# Altium footprint library 1_to_5_Pin.PcbLib: 195 footprints (part 10 of 13)
Each footprint in its own frame and in the unit in brackets; x right, y up, seen from the top. Pads: shape width x height; smd on the part's side, far side on the other; paste and mask are expansions set on the pad; w line width, h text height; cw(c..) or ccw(c..) is an arc to the next point about the centre after c.
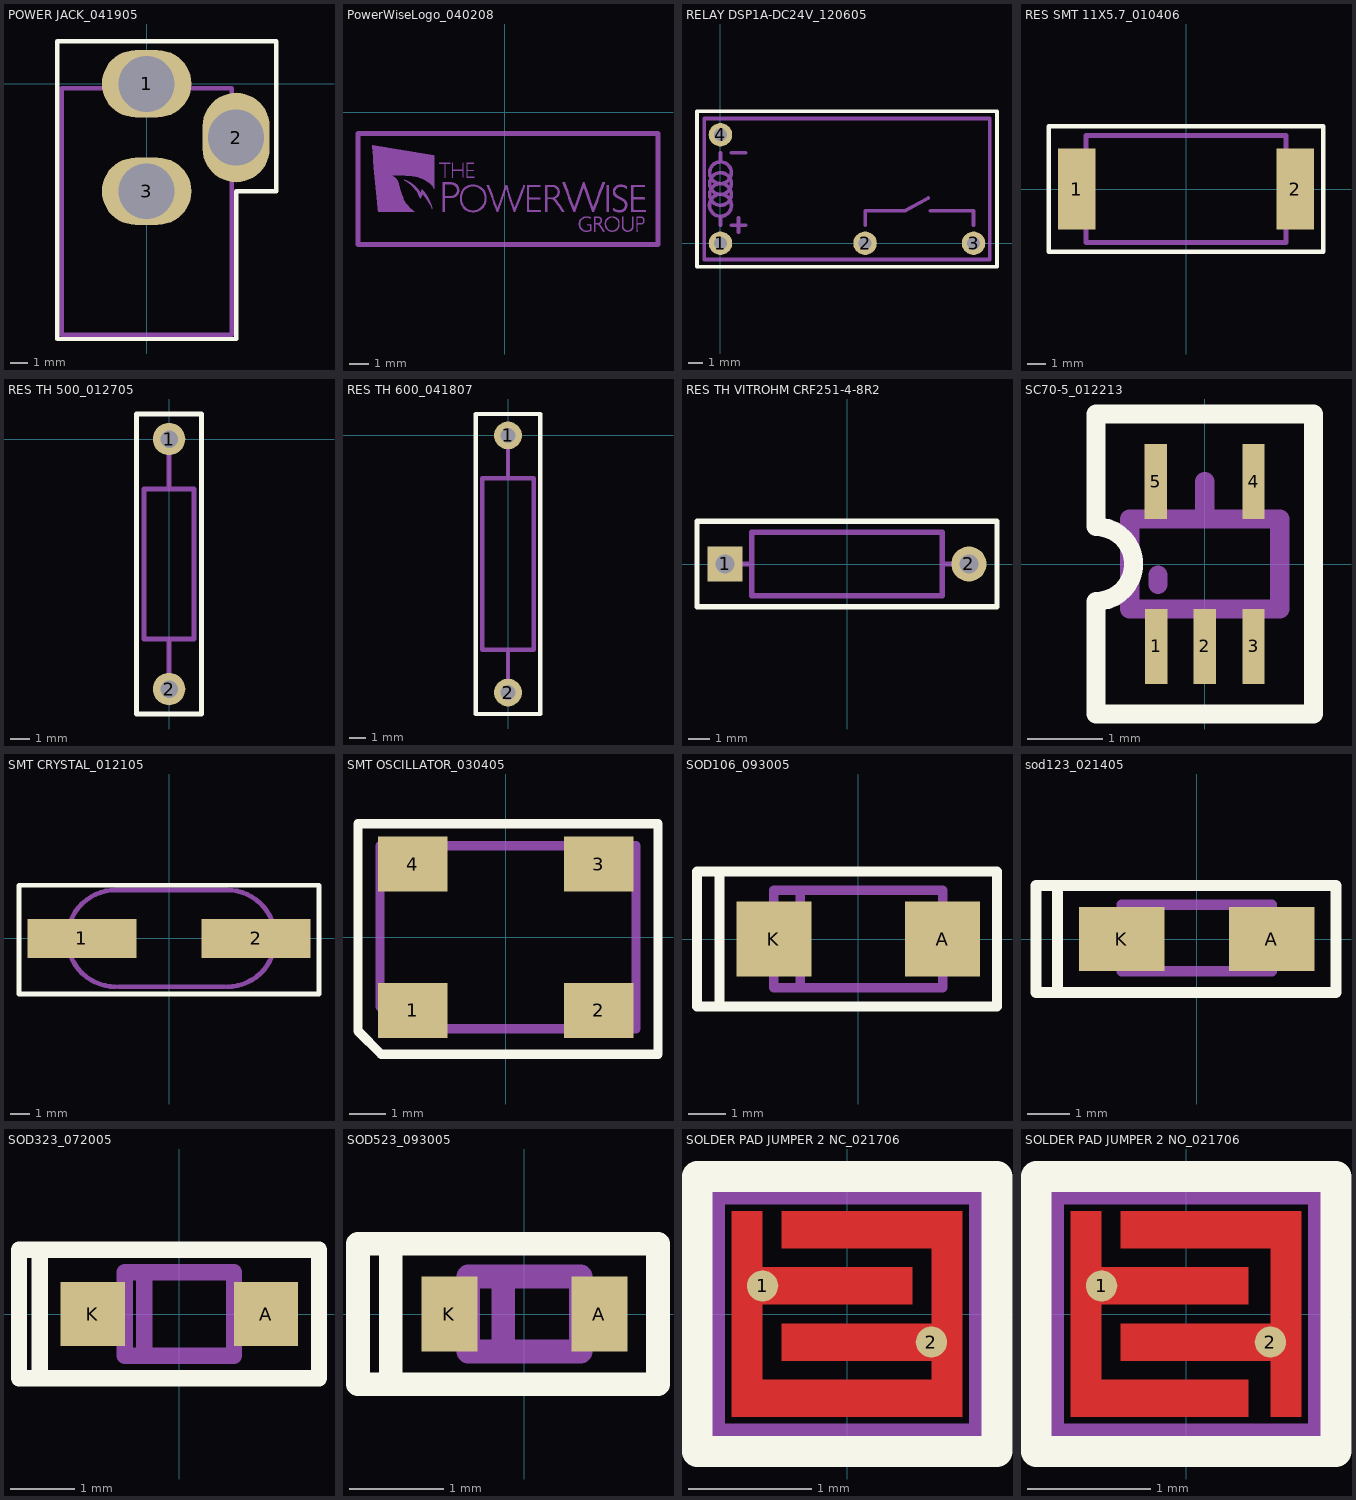
[diagram p9: the footprints below, top view; thin cyan lines are the x and y axes]

## POWER JACK_041905 [mil] "TH"
height 440
pads (3):
  oval 200x150 hole 125: 1(0,0) 3(0,-240)
  oval 150x200 hole 125: 2(200,-120)
Top Overlay:
  lines w10: -200,-570 200,-570 199.99,-240 289.99,-240 289.99,95 -200.01,95 -200,-570
Assembly Outline:
  lines w10: -190.01,-560 -190.01,-10 189.99,-10 189.99,-560 -190.01,-560
Assembly Designator:
  text ".Designator" at -60,-400 h40
Assembly Comment:
  text ".Comment" at -170,-530 h40

## PowerWiseLogo_040208 [mil] "N/A"
Bottom Overlay:
  drawing of 1578 lines, arcs and shapes, not listed

## RELAY DSP1A-DC24V_120605 [mil] "TH"
height 412
pads (4):
  round 65 hole 35: 1(0,0) 2(400,0) 3(700,0) 4(0,300)
Top Overlay:
  lines w10: -65,-65 715,-65 765,-65 765,365 -65,365 -65,-65
Assembly Outline:
  circle w10: c0,195 r30
  circle w10: c0,105 r30.41
  circle w10: c0,135 r30
  circle w10: c0,165 r30
  lines w10: -45,150 -45,-45 ; 0,50 0,75 ; 0,225 0,250 ; 30,50 70,50 ; 30,250 70,250 ; 49.8,29.92 49.8,69.92 ; 400,50 400,90 510,90 575,125 ; 580,90 700,90 700,50 ; -45,-45 745,-45 745,345 -45,345 -45,-45
Assembly Designator:
  text ".Designator" at 275,145 h40
Assembly Comment:
  text ".Comment" at 180,-115 h40

## RES SMT 11X5.7_010406 [mil] "SMT"
height 210
pads (2):
  rect 80x175 smd: 1(-235,0) 2(235,0)
Top Overlay:
  lines w10: -295,-135 0,-135 295,-135 295,0 295,135 0,135 -295,135 -295,0 -295,-135
Assembly Outline:
  lines w10: -215,-50 -235,-50 -235,0 -235,50 -215,50 ; 0,115 -215,115 ; 215,-50 235,-50 235,0 235,50 215,50 ; -215,115 -215,-115 215,-115 215,115 -215,115
Assembly Designator:
  text ".Designator" at -35,-15 h40
Assembly Comment:
  text ".Comment" at -180,-185 h40

## RES TH 500_012705 [mil] "TH"
height 100
pads (2):
  round 65 hole 35: 1(0,0) 2(0,-500)
Top Overlay:
  lines w10: -65,-550 -65,50 0,50 65,50 65,-550 -65,-550
Assembly Outline:
  lines w10: 0,-500 0,-400 ; 0,-100 0,0 ; -50,-400 -50,-100 50,-100 50,-250 50,-400 -50,-400
Assembly Designator:
  text ".Designator" at -15,-219 h40
Assembly Comment:
  text ".Comment" at -108,-108 h40

## RES TH 600_041807 [mil] "TH"
height 100
pads (2):
  round 65 hole 35: 1(0,0) 2(0,-600)
Top Overlay:
  lines w10: -75,-650 -75,50 75,50 75,-650 -75,-650
Assembly Outline:
  lines w10: 0,-600 0,-500 ; 0,-100 0,0 ; -60,-500 -60,-100 60,-100 60,-500 -60,-500
Assembly Designator:
  text ".Designator" at -15,-219 h40
Assembly Comment:
  text ".Comment" at -120,-120 h40

## RES TH VITROHM CRF251-4-8R2 [mil] "TH"
height 118.11
pads (2):
  rect 65x65 hole 35: 1(-226.38,0)
  round 65 hole 35: 2(226.38,0)
Top Overlay:
  lines w10: -278.54,-79.72 0,-79.72 278.54,-79.72 278.54,0 278.54,79.72 0,79.72 -278.54,79.72 -278.54,0 -278.54,-79.72
Assembly Outline:
  lines w10: -226.38,0 -177.17,0 ; 0,59.06 177.17,59.06 177.17,0 ; 17.72,59.06 -177.17,59.06 -177.17,0 ; 226.38,0 177.17,0 ; -177.17,-59.05 0,-59.05 ; -177.17,-59.05 -177.17,0 ; -177.17,-59.05 0,-59.05 ; -177.17,-59.05 -177.17,0 ; 0,-59.05 177.17,-59.05 177.17,0
Assembly Designator:
  text ".Designator" at -53.15,-14.76 h40
Assembly Comment:
  text ".Comment" at -177.17,-132.87 h40

## SC70-5_012213 [mm] "SMT"
height 1
pads (5):
  rect 0.3x1 smd mask+0.038: 1(-0.65,-1.1) 2(0,-1.1) 3(0.65,-1.1) 4(0.65,1.1) 5(-0.65,1.1)
Top Overlay:
  lines w0.254: -1.45,-2 -1.45,-0.5 ccw(c-1.45,0) -1.45,0.5 -1.45,2 0.375,2 1.45,2 1.45,0 1.45,-2 -0.375,-2 -1.45,-2
Assembly Outline:
  lines w0.254: -1,0 -1,0.6 ; -0.65,-1.1 -0.65,-0.6 ; -0.65,0.6 -0.65,1.1 ; -0.625,-0.275 -0.625,-0.15 ; 0,-1.1 0,-0.6 ; 0,1.1 0,0.6 -1,0.6 ; 0.65,-1.1 0.65,-0.6 ; 0.65,0.6 0.65,1.1 ; -1,-0.6 1,-0.6 ; -1,-0.6 -1,0.6 ; -1,-0.6 1,-0.6 ; -1,0.6 1,0.6 1,-0.6
Assembly Designator:
  text ".Designator" at 1.8,-0.475 h1.02
Assembly Comment:
  text ".Comment" at -1.825,-3.5 h1.02

## SMT CRYSTAL_012105 [mil] "SMT"
height 160
pads (2):
  rect 225x80 smd: 1(-180,0) 2(180,0)
Top Overlay:
  lines w10: -310,-115 310,-115 310,110 -310,110 -310,-115
Assembly Outline:
  lines w10: -208,-25 -240,-25 -240,30 -206,30 ; -110,-100 cw(c-110,0) -110,100 120,100 cw(c120,0) 120,-100 ; -105,-100 115,-100 ; 216,30 250,30 250,-25 217,-25
Assembly Designator:
  text ".Designator" at -65,40 h40
Assembly Comment:
  text ".Comment" at -180,-20 h40

## SMT OSCILLATOR_030405 [mm] "SMT"
height 2.54
pads (4):
  rect 1.9x1.5 smd: 1(-2.54,-2) 2(2.54,-2) 3(2.54,2) 4(-2.54,2)
Top Overlay:
  lines w0.254: -4.04,-2.564 -3.404,-3.2 4.16,-3.2 4.16,3.1 -4.04,3.1 -4.04,-2.564
Assembly Outline:
  lines w0.254: -3.44,-1.894 -2.834,-2.5 3.56,-2.5 3.56,2.5 -3.44,2.5 -3.44,-1.894
Assembly Designator:
  text ".Designator" at -1.016,-0.381 h1.02
Assembly Comment:
  text ".Comment" at -2.794,-1.778 h1.02

## SOD106_093005 [mm] "SMT"
height 2
pads (2):
  rect 2x2 smd: A(2.25,0) K(-2.25,0)
Top Overlay:
  lines w0.254: -3.7,-1.8 -4.3,-1.8 -4.3,1.8 -3.7,1.8 ; -3.7,-1.8 -3.7,0 -3.7,1.8 ; -3.7,-1.8 0,-1.8 3.7,-1.8 3.7,0 3.7,1.8 0,1.8 -3.7,1.8
Assembly Outline:
  lines w0.254: -1.55,1.3 -1.55,-1.3 -1.05,-1.3 ; 2.25,0 2.25,1.3 ; 2.25,1.3 2.25,-1.3 -2.25,-1.3 -2.25,1.3 2.25,1.3
Assembly Designator:
  text ".Designator" at -0.55,-0.4 h1.02
Assembly Comment:
  text ".Comment" at -2.25,-3.3 h1.02

## sod123_021405 [mil] "SMT"
height 50
pads (2):
  rect 80x60 smd: A(70,0) K(-70,0)
Top Overlay:
  lines w10: -130,-50 -130,50 ; -150,-50 40,-50 130,-50 130,50 40,50 -150,50 -150,-50
Assembly Outline:
  lines w10: -40,-30 -40,32 ; -70,-30 70,-30 70,32 -70,32 -70,-30
Assembly Designator:
  text ".Designator" at -105,-15 h40
Assembly Comment:
  text ".Comment" at -117,-82 h40

## SOD323_072005 [mm] "SMT"
height 1.16
pads (2):
  rect 1x1 smd: A(1.35,0) K(-1.35,0)
Top Overlay:
  lines w0.254: -2.175,-1 0,-1 2.175,-1 2.175,0 2.175,1 0,1 -2.175,1 ; -2.175,-1 -2.175,0 -2.175,1 ; -2.175,-1 -2.5,-1 -2.5,1 -2.175,1
Assembly Outline:
  lines w0.254: -0.85,-0.2 -1.35,-0.2 -1.35,0 -1.35,0.2 -0.85,0.2 ; -0.55,-0.65 -0.55,0.65 ; 0,-0.65 -0.85,-0.65 ; 0.85,-0.2 1.35,-0.2 1.35,0 1.35,0.2 0.85,0.2 ; -0.85,-0.65 0.85,-0.65 0.85,0.65 -0.85,0.65 -0.85,-0.65
Assembly Designator:
  text ".Designator" at -0.975,1.325 h1.02
Assembly Comment:
  text ".Comment" at -3,-2.275 h1.02

## SOD523_093005 [mm] "SMT"
height 0.6
pads (2):
  rect 0.6x0.8 smd: A(0.8,0) K(-0.8,0)
Top Overlay:
  lines w0.254: -1.425,-0.75 0,-0.75 1.425,-0.75 1.425,0 1.425,0.75 0,0.75 -1.425,0.75 ; -1.425,-0.75 -1.425,0 -1.425,0.75 ; -1.425,-0.75 -1.775,-0.75 -1.775,0.75 -1.425,0.75
Assembly Outline:
  lines w0.254: -0.225,-0.4 -0.225,0.4 ; 0.6,0 0.8,0 0.8,0.15 ; -0.8,0.15 -0.8,0 -0.6,0 -0.6,0.4 ; -0.8,0.15 -0.6,0.15 -0.6,-0.15 -0.8,-0.15 -0.8,0.15 ; -0.6,0.4 0.6,0.4 0.6,-0.4 -0.6,-0.4 -0.6,0.4 ; 0.8,0.15 0.6,0.15 0.6,-0.15 0.8,-0.15 0.8,0.15
Assembly Designator:
  text ".Designator" at -0.95,1.15 h1.02
Assembly Comment:
  text ".Comment" at -2.95,-2.1 h1.02

## SOLDER PAD JUMPER 2 NC_021706 [mil] "FEATURE SMT PCB"
pads (2):
  round 10 smd mask+2: 1(-27,9) 2(27,-9)
Top Layer:
  region: 37,33 27,33 27,-33 37,-33
  rectangle: -37,-33 -27,33
  rectangle: -21,21 33,33
  rectangle: -33,-33 37,-21
  rectangle: -21,-15 33,-3
  rectangle: -33,3 21,15
Top Overlay:
  lines w10: -48,-44 0,-44 48,-44 48,0 48,44 0,44 -48,44 -48,0 -48,-44
Top Solder:
  circle w50: c0,0 r24
Assembly Outline:
  lines w10: -44,-40 0,-40 44,-40 44,0 44,40 0,40 -44,40 -44,0 -44,-40
Assembly Designator:
  text ".Designator" at -30,-16 h40
Assembly Comment:
  text ".Comment" at -50,-102 h40

## SOLDER PAD JUMPER 2 NO_021706 [mil] "FEATURE SMT PCB"
pads (2):
  round 10 smd mask+2: 1(-27,9) 2(27,-9)
Top Layer:
  region: 37,33 27,33 27,-33 37,-33
  rectangle: -37,-33 -27,33
  rectangle: -21,21 33,33
  rectangle: -33,-33 20,-21
  rectangle: -21,-15 33,-3
  rectangle: -33,3 20,15
Top Overlay:
  lines w10: -48,-44 0,-44 48,-44 48,0 48,44 0,44 -48,44 -48,0 -48,-44
Top Solder:
  circle w50: c0,0 r24
Assembly Outline:
  lines w10: -44,-40 0,-40 44,-40 44,0 44,40 0,40 -44,40 -44,0 -44,-40
Assembly Designator:
  text ".Designator" at 0,116 h40
Assembly Comment:
  text ".Comment" at -54,-102 h40